# EAGLE library part JQX-15F(T90) (library JQX-15F(T90))
JQX-15(T90) <https://pdf.voron.ua/files/pdf/relay/power/JQX-15F(T90).pdf> - ElectroMechanical Relay Rated for a Maximum current of 30 A. Coil Voltage of 12VDC SPDT Switch PCB mountable
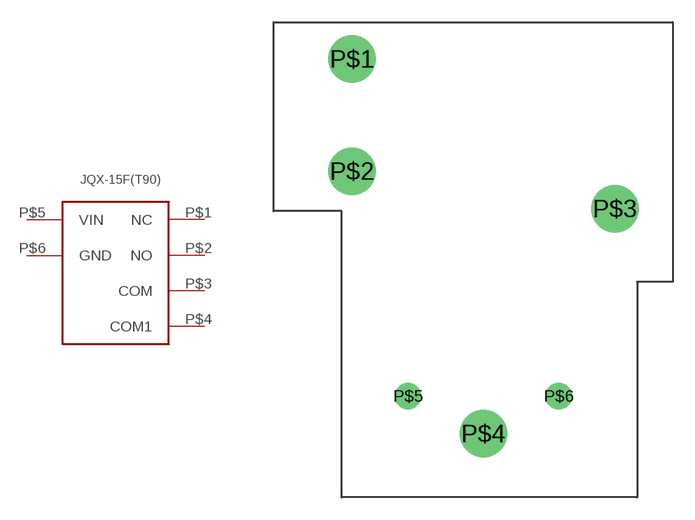
[diagram p0: symbol with the pads of JQX-15F(T90); footprint JQX-15F(T90)]

Designator prefix -

## JQX-15F(T90)THT  [JQX-15F(T90)]
P$1  NC  pwr
P$2  NO  pwr
P$3  COM  pwr
P$4  COM1  pwr
P$5  VIN
P$6  GND

## Footprint JQX-15F(T90) (pad centres in mm)
drill 2.2: P$1 -8.2,13.6; P$2 -8.2,6; P$3 9.6,3.46; P$4 0.7,-11.78
drill 1.2: P$5 -4.4,-9.24; P$6 5.8,-9.24